# Altium schematic symbol library NOR.SchLib: 1 symbol
Pins are listed as number, name and electrical type; pins without a type are passive.

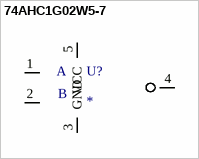
[diagram p0: symbol 74AHC1G02W5-7]

## 74AHC1G02W5-7
designator U?
pins: 1 A, 2 B, 3 GND, 4 6, 5 VCC